# EAGLE library part TDA8425_TDA8425 (library amp_tda8425_v_1_0)
I2C bus controlled Audio HiFi Sound Processor
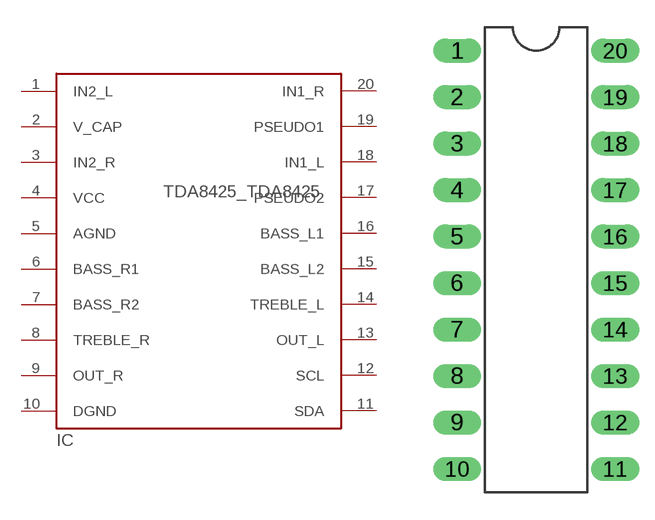
[diagram p0: symbol with the pads of TDA8425_DIL20; footprint TDA8425_DIL20]

Designator prefix IC

## TDA8425_TDA8425  [TDA8425_DIL20]
1  IN2_L
2  V_CAP
3  IN2_R
4  VCC
5  AGND
6  BASS_R1
7  BASS_R2
8  TREBLE_R
9  OUT_R
10  DGND
11  SDA
12  SCL
13  OUT_L
14  TREBLE_L
15  BASS_L2
16  BASS_L1
17  PSEUDO2
18  IN1_L
19  PSEUDO1
20  IN1_R

## Footprint TDA8425_DIL20 (pad centres in mm)
DIL20
drill 0.813 long: 1 -4.318,11.43; 2 -4.318,8.89; 3 -4.318,6.35; 4 -4.318,3.81; 5 -4.318,1.27; 6 -4.318,-1.27; 7 -4.318,-3.81; 8 -4.318,-6.35; 9 -4.318,-8.89; 10 -4.318,-11.43; 11 4.318,-11.43; 12 4.318,-8.89; 13 4.318,-6.35; 14 4.318,-3.81; 15 4.318,-1.27; 16 4.318,1.27; 17 4.318,3.81; 18 4.318,6.35; 19 4.318,8.89; 20 4.318,11.43